# Altium footprint library REG_3.3V_D2PAK.PcbLib: 1 footprints
Each footprint in its own frame and in the unit in brackets; x right, y up, seen from the top. Pads: shape width x height; smd on the part's side, far side on the other; paste and mask are expansions set on the pad; w line width, h text height; cw(c..) or ccw(c..) is an arc to the next point about the centre after c.
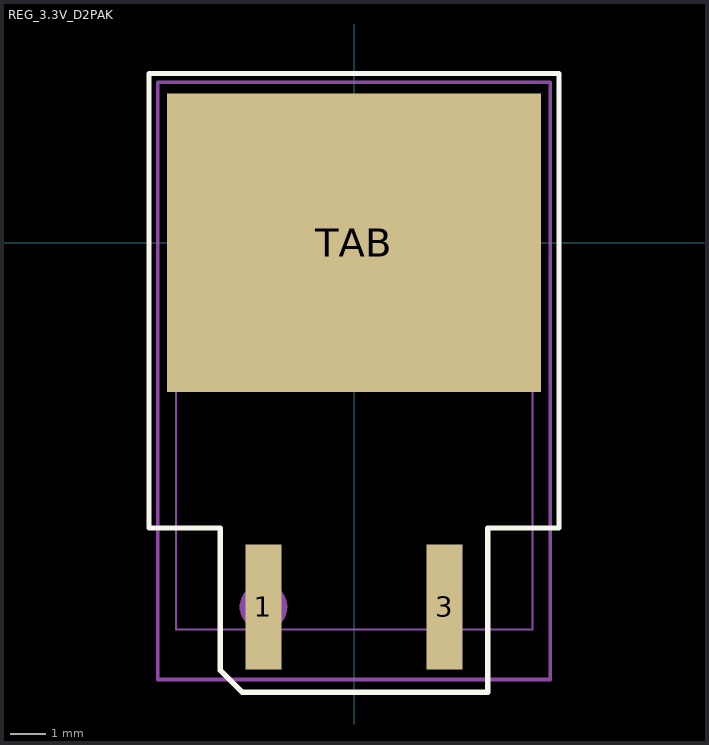
[diagram p0: the footprint, top view; thin cyan lines are the x and y axes]

## REG_3.3V_D2PAK [mil]
pads (3):
  rect 40x137.95 smd: 1(-100,-402.09) 3(100,-402.09)
  rect 412.99x329.92 smd: TAB(0,0)
Top Overlay:
  lines w5.91: -226.38,-314.96 -147.64,-314.96 -147.64,-472.44 -123.76,-496.32 147.64,-496.32 147.64,-314.96 226.38,-314.96 226.38,187.01 -226.38,187.01 -226.38,-314.96
Top Assembly:
  circle w10: c-100,-402.09 r21.31
  lines w1.97: -196.45,-427.14 197.25,-427.14 197.25,131.86 -196.45,131.86 -196.45,-427.14
  text ".Designator" at -236.14,-19.95 h47.24
Top Courtyard:
  lines w3.94: -19.68,0 19.68,0 ; 0,-19.68 0,19.68 ; -216.54,-482.28 216.54,-482.28 216.54,177.17 -216.54,177.17 -216.54,-482.28
3D body "NCP565D2T33R4G.step": height 180.5, standoff 0.5, extent -197.25,-427.14 197.25,131.86